# Altium schematic symbol library SchLib.SchLib: 3 symbols
Pins are listed as number, name and electrical type; pins without a type are passive.

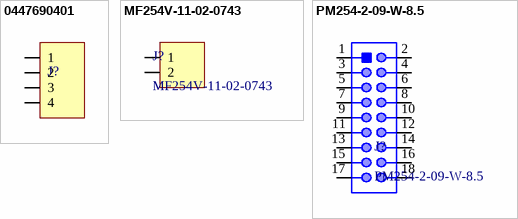
[diagram p0: symbols 0447690401 to PM254-2-09-W-8.5]

## 0447690401
designator J?  (value not drawn)
4 Position Receptacle Connector 0.118" (3.00mm) Through Hole Tin; Manufacturer: Molex; Manufacturer Part Number: 0447690401; Digikey Part Number: 23-0447690401-ND; Item Type: Connector; Package: THT; ComponentLink1Description: Digikey; ComponentLink1URL: https://www.digikey.my/en/products/detail/molex/0447690401/513216?s=N4IgTCBcDaICxwOwDYCcAGO6CMIC6AvkA
pins: 1, 2, 3, 4

## MF254V-11-02-0743
designator J?
2.54mm Single Row 3A 2P -40℃~+105℃ Direct Insert 1x2P Top Round Hole Plugin,P=2.54mm Female Headers ROHS; Manufacturer: XFCN; Item Type: Header; Manufacturer Part Number: MF254V-11-02-0743; LCSC Part Number: C2889984; Package: Plugin,P=2.54mm; ComponentLink1Description: LCSC; ComponentLink1URL: https://www.lcsc.com/product-detail/Female-Headers_XFCN-MF254V-11-02-0743_C2889984.html
footprint MF254V-11-02-0743
pins: 1, 2

## PM254-2-09-W-8.5
designator J?
2.54mm 2.54mm Double Row 3A Copper Alloy 18P -40℃~+105℃ 260℃@5S Bend insert 2x9P Side 8.5mm Square Hole Push-Pull,P=2.54mm Female Headers ROHS; Manufacturer: HCTL; Item Type: HEADER; Manufacturer Part Number: PM254-2-09-W-8.5; LCSC Part Number: C2897429; Package: Push-Pull,P=2.54mm
footprint PM254-2-09-W-8.5 (2.54mm 2.54mm Double Row 3A Copper Alloy 18P -40?~+105? 260?@5S Bend insert 2x9P Side 8.5mm Square Hole Push-Pull,P=2.54mm Female Headers ROHS)
pins: 1, 2, 3, 4, 5, 6, 7, 8, 9, 10, 11, 12, 13, 14, 15, 16, 17, 18